# Altium schematic symbol library INDUCTOR 0630.SchLib: 1 symbol
Pins are listed as number, name and electrical type; pins without a type are passive.

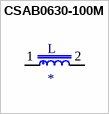
[diagram p0: symbol CSAB0630-100M]

## CSAB0630-100M
designator L
SMD Inductor 10uH-20%-5A; MP: CSAB0630-100M; MF: Codaca; Value: *; SnapEDA_Link: https://www.snapeda.com/parts/CSAB0630-100M/Codaca/view-part/523415/?ref=snap; Availability: Unavailable; Price: None; Package: None
footprint INDC6060X300
pins: 1, 2